# Altium footprint library HO2.16-1B.PcbLib: 1 footprints
Each footprint in its own frame and in the unit in brackets; x right, y up, seen from the top. Pads: shape width x height; smd on the part's side, far side on the other; paste and mask are expansions set on the pad; w line width, h text height; cw(c..) or ccw(c..) is an arc to the next point about the centre after c.
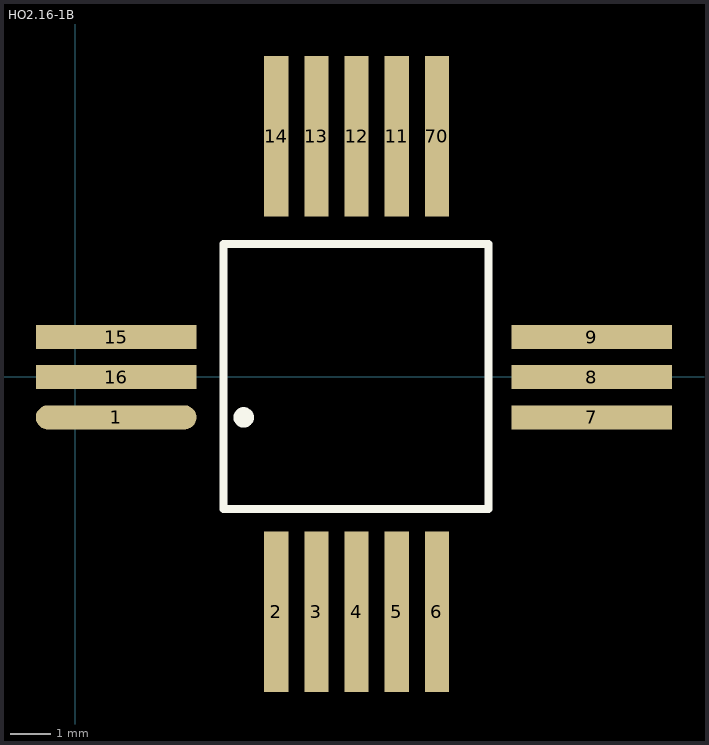
[diagram p0: the footprint, top view; thin cyan lines are the x and y axes]

## HO2.16-1B [mm]
pads (16):
  oval 4x0.6 smd: 1(1.016,-1.016)
  rect 0.6x4 smd: 2(5,-5.857) 3(6,-5.857) 4(7,-5.857) 5(8,-5.857) 6(9,-5.857) 11(8,5.984) 12(7,5.984) 13(6,5.984) 14(5,5.984) 70(9,5.984)
  rect 4x0.6 smd: 7(12.857,-1.016) 8(12.857,-0.016) 9(12.857,0.984) 15(1.016,0.984) 16(1.016,-0.016)
Top Overlay:
  circle w0.254: c4.191,-1.016 r0.127
  lines w0.2: 3.683,-3.302 3.683,3.302 10.287,3.302 10.287,-3.302 3.683,-3.302
3D body: height 2.9, standoff 0, extent 3.683,-3.302 10.287,3.302